# EAGLE library part CON-HARTING_CON26L (library connect24x16)
CONNECTOR
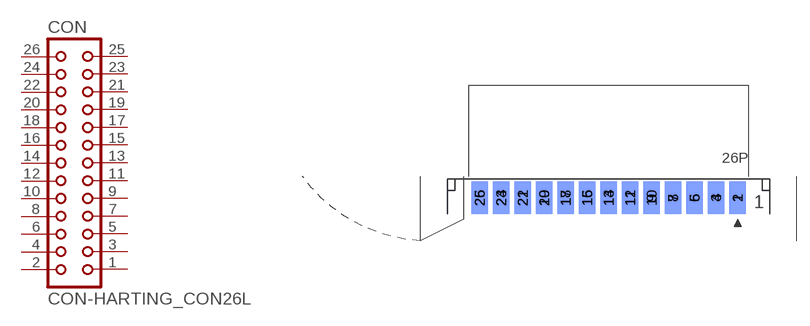
[diagram p1: symbol with the pads of CON-HARTING_CON26L; footprint CON-HARTING_CON26L]

Designator prefix CON

## CON-HARTING_CON26L  [CON-HARTING_CON26L]
1  1  pas
2  2  pas
3  3  pas
4  4  pas
5  5  pas
6  6  pas
7  7  pas
8  8  pas
9  9  pas
10  10  pas
11  11  pas
12  12  pas
13  13  pas
14  14  pas
15  15  pas
16  16  pas
17  17  pas
18  18  pas
19  19  pas
20  20  pas
21  21  pas
22  22  pas
23  23  pas
24  24  pas
25  25  pas
26  26  pas

## Footprint CON-HARTING_CON26L (pad centres in mm)
CONNECTOR
smd 1.93 x 3.81: 1 15.24,-2.54; 3 12.7,-2.54; 5 10.16,-2.54; 7 7.62,-2.54; 9 5.08,-2.54; 11 2.54,-2.54; 13 0,-2.54; 15 -2.54,-2.54; 17 -5.08,-2.54; 19 -7.62,-2.54; 21 -10.16,-2.54; 23 -12.7,-2.54; 25 -15.24,-2.54
smd 1.93 x 3.81 bottom: 2 15.24,-2.54; 4 12.7,-2.54; 6 10.16,-2.54; 8 7.62,-2.54; 10 5.08,-2.54; 12 2.54,-2.54; 14 0,-2.54; 16 -2.54,-2.54; 18 -5.08,-2.54; 20 -7.62,-2.54; 22 -10.16,-2.54; 24 -12.7,-2.54; 26 -15.24,-2.54